# Altium footprint library UC-PCB.PcbLib: 145 footprints (part 5 of 10)
Each footprint in its own frame and in the unit in brackets; x right, y up, seen from the top. Pads: shape width x height; smd on the part's side, far side on the other; paste and mask are expansions set on the pad; w line width, h text height; cw(c..) or ccw(c..) is an arc to the next point about the centre after c.
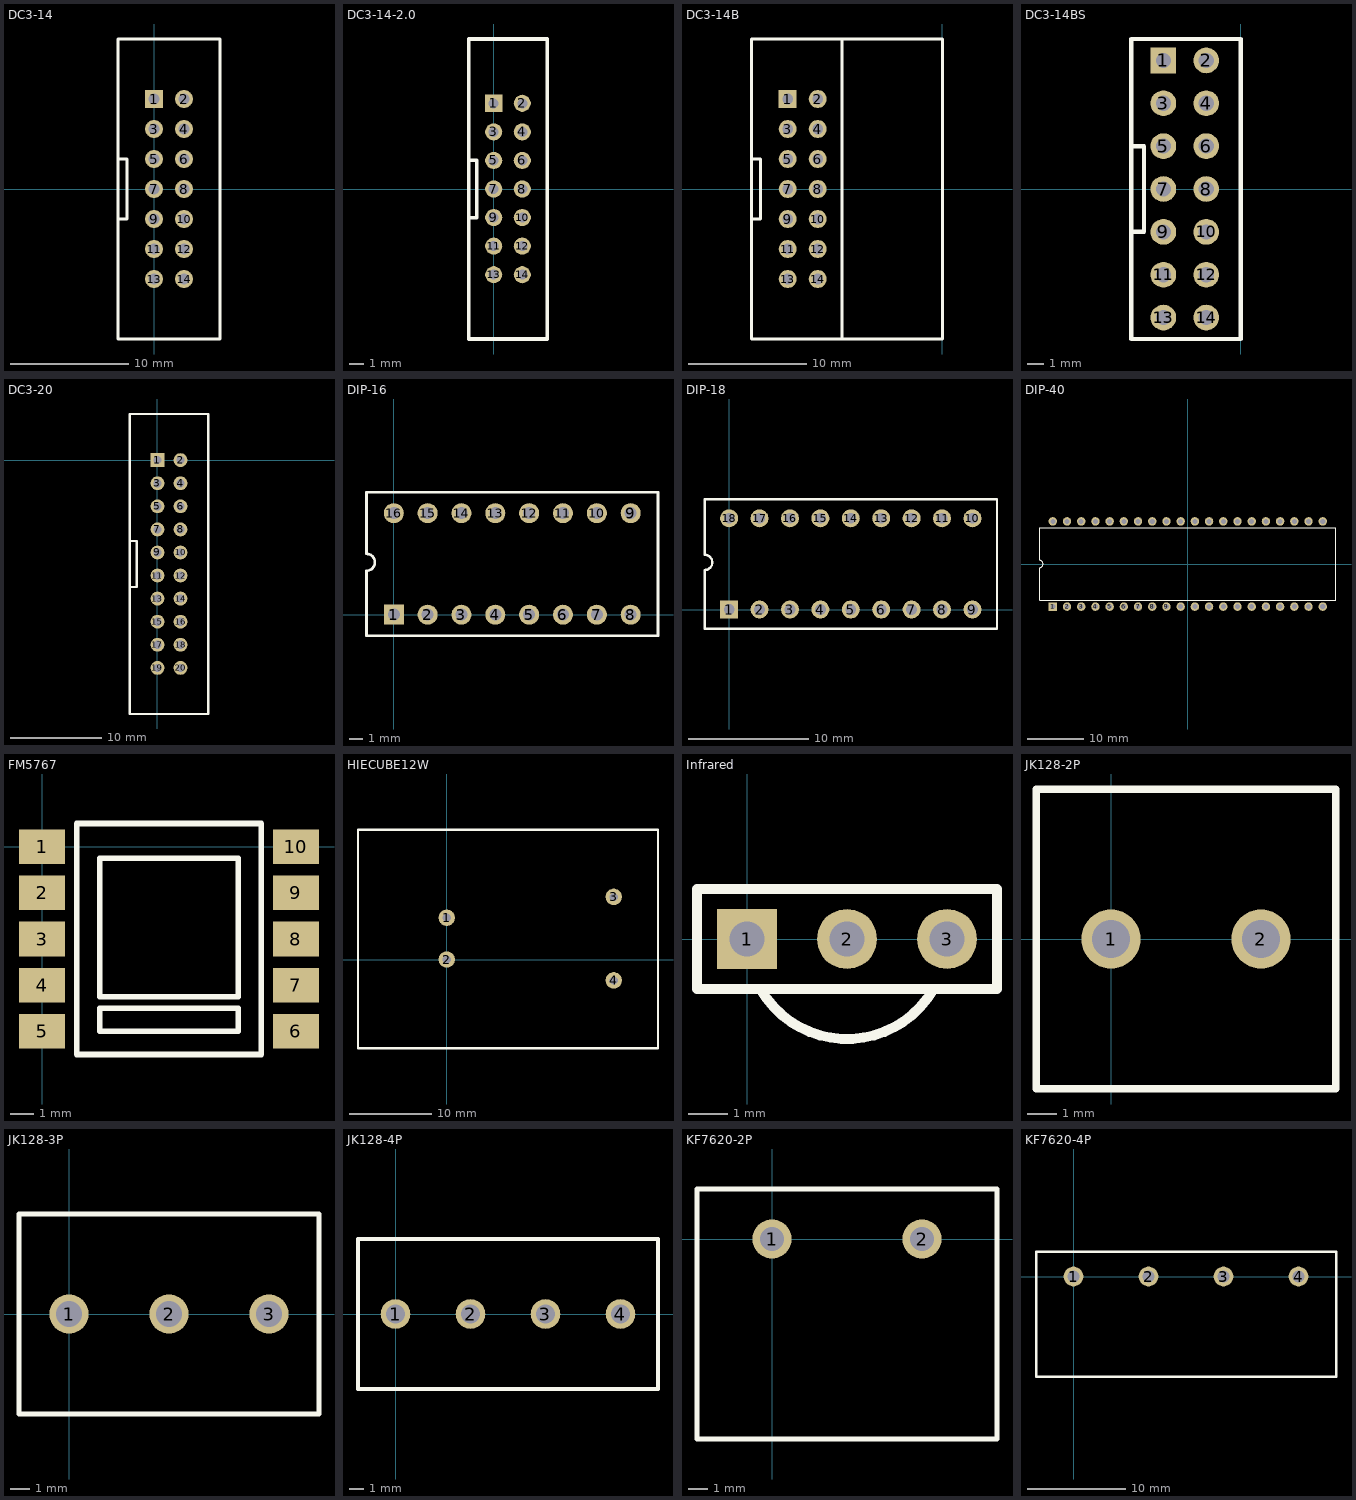
[diagram p4: the footprints below, top view; thin cyan lines are the x and y axes]

## DC3-14 [mil]
pads (14):
  rect 60x60 hole 35.43: 1(0,300)
  round 60 hole 35.43: 2(100,300) 3(0,200) 4(100,200) 5(0,100) 6(100,100) 7(0,0) 8(100,0) 9(0,-100) 10(100,-100) 11(0,-200) 12(100,-200) 13(0,-300) 14(100,-300)
Top Overlay:
  lines w10: -120,-100 -90,-100 -90,100 -120,100 ; -120,-500 -120,500 220,500 220,-500 -120,-500

## DC3-14-2.0 [mm]
pads (14):
  rect 1.2x1.2 hole 0.7: 1(0,6)
  round 1.2 hole 0.7: 2(2,6) 3(0,4) 4(2,4) 5(0,2) 6(2,2) 7(0,0) 8(2,0) 9(0,-2) 10(2,-2) 11(0,-4) 12(2,-4) 13(0,-6) 14(2,-6)
Top Overlay:
  lines w0.254: -1.75,-2 -1.2,-2 -1.2,2 -1.75,2 ; -1.75,-10.5 -1.75,10.5 3.75,10.5 3.75,-10.5 -1.75,-10.5

## DC3-14B [mil]
pads (14):
  rect 60x60 hole 35.43: 1(-515.28,300)
  round 60 hole 35.43: 2(-415.28,300) 3(-515.28,200) 4(-415.28,200) 5(-515.28,100) 6(-415.28,100) 7(-515.28,0) 8(-415.28,0) 9(-515.28,-100) 10(-415.28,-100) 11(-515.28,-200) 12(-415.28,-200) 13(-515.28,-300) 14(-415.28,-300)
Top Overlay:
  lines w10: -635.28,-100 -605.28,-100 -605.28,100 -635.28,100 ; -334.65,-500 -334.65,500 ; -635.28,-500 -295.28,-500 0,-500 0,500 -295.28,500 -635.28,500 -635.28,-500

## DC3-14BS [mil]
pads (14):
  rect 60x60 hole 35.43: 1(-180.63,300)
  round 60 hole 35.43: 2(-80.63,300) 3(-180.63,200) 4(-80.63,200) 5(-180.63,100) 6(-80.63,100) 7(-180.63,0) 8(-80.63,0) 9(-180.63,-100) 10(-80.63,-100) 11(-180.63,-200) 12(-80.63,-200) 13(-180.63,-300) 14(-80.63,-300)
Top Overlay:
  lines w10: -255.63,-100 -225.63,-100 -225.63,100 -255.63,100 ; 0,-350 -255.55,-350 -255.55,350 0,350 0,-349

## DC3-20 [mil]
pads (20):
  rect 60x60 hole 35.43: 1(0,0)
  round 60 hole 35.43: 2(100,0) 3(0,-100) 4(100,-100) 5(0,-200) 6(100,-200) 7(0,-300) 8(100,-300) 9(0,-400) 10(100,-400) 11(0,-500) 12(100,-500) 13(0,-600) 14(100,-600) 15(0,-700) 16(100,-700) 17(0,-800) 18(100,-800) 19(0,-900) 20(100,-900)
Top Overlay:
  lines w10: -120,-550 -90,-550 -90,-350 -120,-350 ; -120,-1100 220,-1100 220,200 -120,200 -120,-1100

## DIP-16 [mm]
pads (16):
  rect 1.5x1.5 hole 0.9: 1(0,0)
  round 1.5 hole 0.9: 2(2.54,0) 3(5.08,0) 4(7.62,0) 5(10.16,0) 6(12.7,0) 7(15.24,0) 8(17.78,0) 9(17.78,7.62) 10(15.24,7.62) 11(12.7,7.62) 12(10.16,7.62) 13(7.62,7.62) 14(5.08,7.62) 15(2.54,7.62) 16(0,7.62)
Top Overlay:
  lines w0.2: -2.05,4.57 cw(c-2.05,3.935) -2.05,3.3 -2.05,-1.59 19.83,-1.59 19.83,9.2 -2.05,9.2 -2.05,4.6

## DIP-18 [mm]
pads (18):
  rect 1.5x1.5 hole 0.9: 1(0,0)
  round 1.5 hole 0.9: 2(2.54,0) 3(5.08,0) 4(7.62,0) 5(10.16,0) 6(12.7,0) 7(15.24,0) 8(17.78,0) 9(20.32,0) 10(20.32,7.62) 11(17.78,7.62) 12(15.24,7.62) 13(12.7,7.62) 14(10.16,7.62) 15(7.62,7.62) 16(5.08,7.62) 17(2.54,7.62) 18(0,7.62)
Top Overlay:
  lines w0.2: -2.05,4.57 cw(c-2.05,3.935) -2.05,3.3 -2.05,-1.59 22.37,-1.59 22.37,9.2 -2.05,9.2 -2.05,4.6

## DIP-40 [mm]
height 4.83
pads (40):
  rect 1.5x1.5 hole 0.9: 1(-24.13,-7.62)
  round 1.5 hole 0.9: 2(-21.59,-7.62) 3(-19.05,-7.62) 4(-16.51,-7.62) 5(-13.97,-7.62) 6(-11.43,-7.62) 7(-8.89,-7.62) 8(-6.35,-7.62) 9(-3.81,-7.62) 10(-1.27,-7.62) 11(1.27,-7.62) 12(3.81,-7.62) 13(6.35,-7.62) 14(8.89,-7.62) 15(11.43,-7.62) 16(13.97,-7.62) 17(16.51,-7.62) 18(19.05,-7.62) 19(21.59,-7.62) 20(24.13,-7.62) 21(24.13,7.62) 22(21.59,7.62) 23(19.05,7.62) 24(16.51,7.62) 25(13.97,7.62) 26(11.43,7.62) 27(8.89,7.62) 28(6.35,7.62) 29(3.81,7.62) 30(1.27,7.62) 31(-1.27,7.62) 32(-3.81,7.62) 33(-6.35,7.62) 34(-8.89,7.62) 35(-11.43,7.62) 36(-13.97,7.62) 37(-16.51,7.62) 38(-19.05,7.62) 39(-21.59,7.62) 40(-24.13,7.62)
Top Overlay:
  lines w0.2: -26.5,-6.45 26.5,-6.45 26.5,6.45 -26.5,6.45 -26.5,0.635 cw(c-26.5,0) -26.5,-0.635 -26.5,-6.45

## FM5767 [mm]
pads (10):
  rect 2x1.5 smd: 1(0,0) 2(0,-2) 3(0,-4) 4(0,-6) 5(0,-8) 6(11,-8) 7(11,-6) 8(11,-4) 9(11,-2) 10(11,0)
Top Overlay:
  lines w0.254: 1.5,-9 1.5,1 9.5,1 9.5,-9 1.5,-9 ; 2.5,-8 2.5,-7 8.5,-7 8.5,-8 2.5,-8 ; 2.5,-6.5 8,-6.5 8.5,-6.5 8.5,-0.5 2.5,-0.5 2.5,-6.5

## HIECUBE12W [mm]
pads (4):
  round 2 hole 1: 1(0,5.08) 2(0,0) 3(20.32,7.62) 4(20.32,-2.54)
Top Overlay:
  lines w0.254: -10.8,-10.8 25.7,-10.8 ; -10.8,-10.71 -10.8,15.79 ; -10.795,15.79 25.7,15.79 25.7,-10.71

## Infrared [mil]
pads (3):
  rect 60x60 hole 35.4: 1(0,0)
  round 60 hole 35.4: 2(100,0) 3(200,0)
Top Overlay:
  lines w10: 13.81,-50.7 ccw(c100,0) 186.19,-50.7 ; -50,-50 250,-50 250,50 -50,50 -50,-50

## JK128-2P [mm]
pads (2):
  round 2 hole 1.3: 1(0,0) 2(5.08,0)
Top Overlay:
  lines w0.254: -2.54,-5.08 7.62,-5.08 7.62,5.08 -2.54,5.08 -2.54,-5.08

## JK128-3P [mm]
pads (3):
  round 2 hole 1.3: 1(0,0) 2(5.08,0) 3(10.16,0)
Top Overlay:
  lines w0.254: -2.54,-5.08 -2.54,5.08 12.7,5.08 12.7,-5.08 -2.54,-5.08

## JK128-4P [mm]
pads (4):
  round 2 hole 1.3: 1(0,0) 2(5.08,0) 3(10.16,0) 4(15.24,0)
Top Overlay:
  lines w0.254: -2.54,-5.08 -2.54,5.08 17.78,5.08 17.78,-5.08 -2.54,-5.08

## KF7620-2P [mm]
pads (2):
  round 2 hole 1.2: 1(0,0) 2(7.62,0)
Top Overlay:
  lines w0.254: -3.81,-10.16 -3.81,2.54 11.43,2.54 11.43,-10.16 -3.81,-10.16

## KF7620-4P [mm]
pads (4):
  round 2 hole 1.2: 1(0,0) 2(7.62,0) 3(15.24,0) 4(22.86,0)
Top Overlay:
  lines w0.254: -3.81,-10.16 -3.81,2.54 26.67,2.54 26.67,-10.16 -3.81,-10.16